# EAGLE library part DIP-BLACK-FEMALE-HEADER-VERT(2X20P-2.54) (library Seeed-OPL-Connector)
320030015
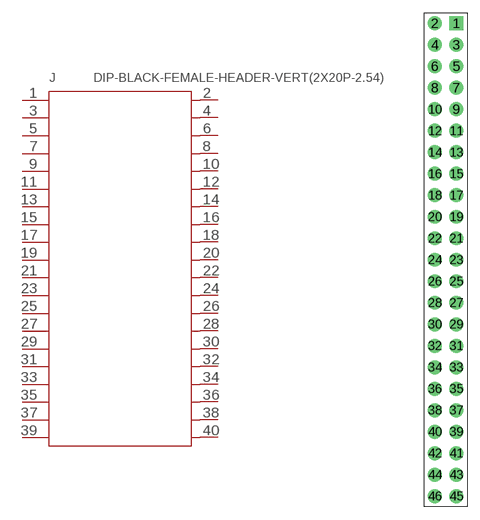
[diagram p62: symbol with the pads of H2X23-2.54; footprint H2X23-2.54]

Designator prefix J

## DIP-BLACK-FEMALE-HEADER-VERT(2X20P-2.54) (MPN: F185-1240A0BSYA1; VALUE: 2x20p-2.54)  [H2X23-2.54]
1  3.3V
2  5V
3  GPIO02
4  5V
5  GPIO03
6  GND
7  GPIO04
8  GPIO14
9  GND
10  GPIO15
11  GPIO17
12  GPIO18
13  GPIO27
14  GND
15  GPIO22
16  GPIO23
17  3.3V
18  GPIO24
19  GPIO10
20  GND
21  GPIO09
22  GPIO25
23  GPIO11
24  GPIO08
25  GND
26  GPIO07
27  ID_SD
28  ID_SC
29  GPIO05
30  GND
31  GPIO06
32  GPIO12
33  GPIO13
34  GND
35  GPIO19
36  GPIO16
37  GPIO26
38  GPIO20
39  GND
40  GPIO21

## Footprint H2X23-2.54 (pad centres in mm)
drill 0.889 pad 1.651 square: 1 1.27,27.94
drill 0.889 pad 1.651: 2 -1.27,27.94; 3 1.27,25.4; 4 -1.27,25.4; 5 1.27,22.86; 6 -1.27,22.86; 7 1.27,20.32; 8 -1.27,20.32; 9 1.27,17.78; 10 -1.27,17.78; 11 1.27,15.24; 12 -1.27,15.24; 13 1.27,12.7; 14 -1.27,12.7; 15 1.27,10.16; 16 -1.27,10.16; 17 1.27,7.62; 18 -1.27,7.62; 19 1.27,5.08; 20 -1.27,5.08; 21 1.27,2.54; 22 -1.27,2.54; 23 1.27,0; 24 -1.27,0; 25 1.27,-2.54; 26 -1.27,-2.54; 27 1.27,-5.08; 28 -1.27,-5.08; 29 1.27,-7.62; 30 -1.27,-7.62; 31 1.27,-10.16; 32 -1.27,-10.16; 33 1.27,-12.7; 34 -1.27,-12.7; 35 1.27,-15.24; 36 -1.27,-15.24; 37 1.27,-17.78; 38 -1.27,-17.78; 39 1.27,-20.32; 40 -1.27,-20.32; 41 1.27,-22.86; 42 -1.27,-22.86; 43 1.27,-25.4; 44 -1.27,-25.4; 45 1.27,-27.94; 46 -1.27,-27.94